# Altium footprint library WakamelibGOOD.PCBLIB: 54 footprints (part 3 of 4)
Each footprint in its own frame and in the unit in brackets; x right, y up, seen from the top. Pads: shape width x height; smd on the part's side, far side on the other; paste and mask are expansions set on the pad; w line width, h text height; cw(c..) or ccw(c..) is an arc to the next point about the centre after c.
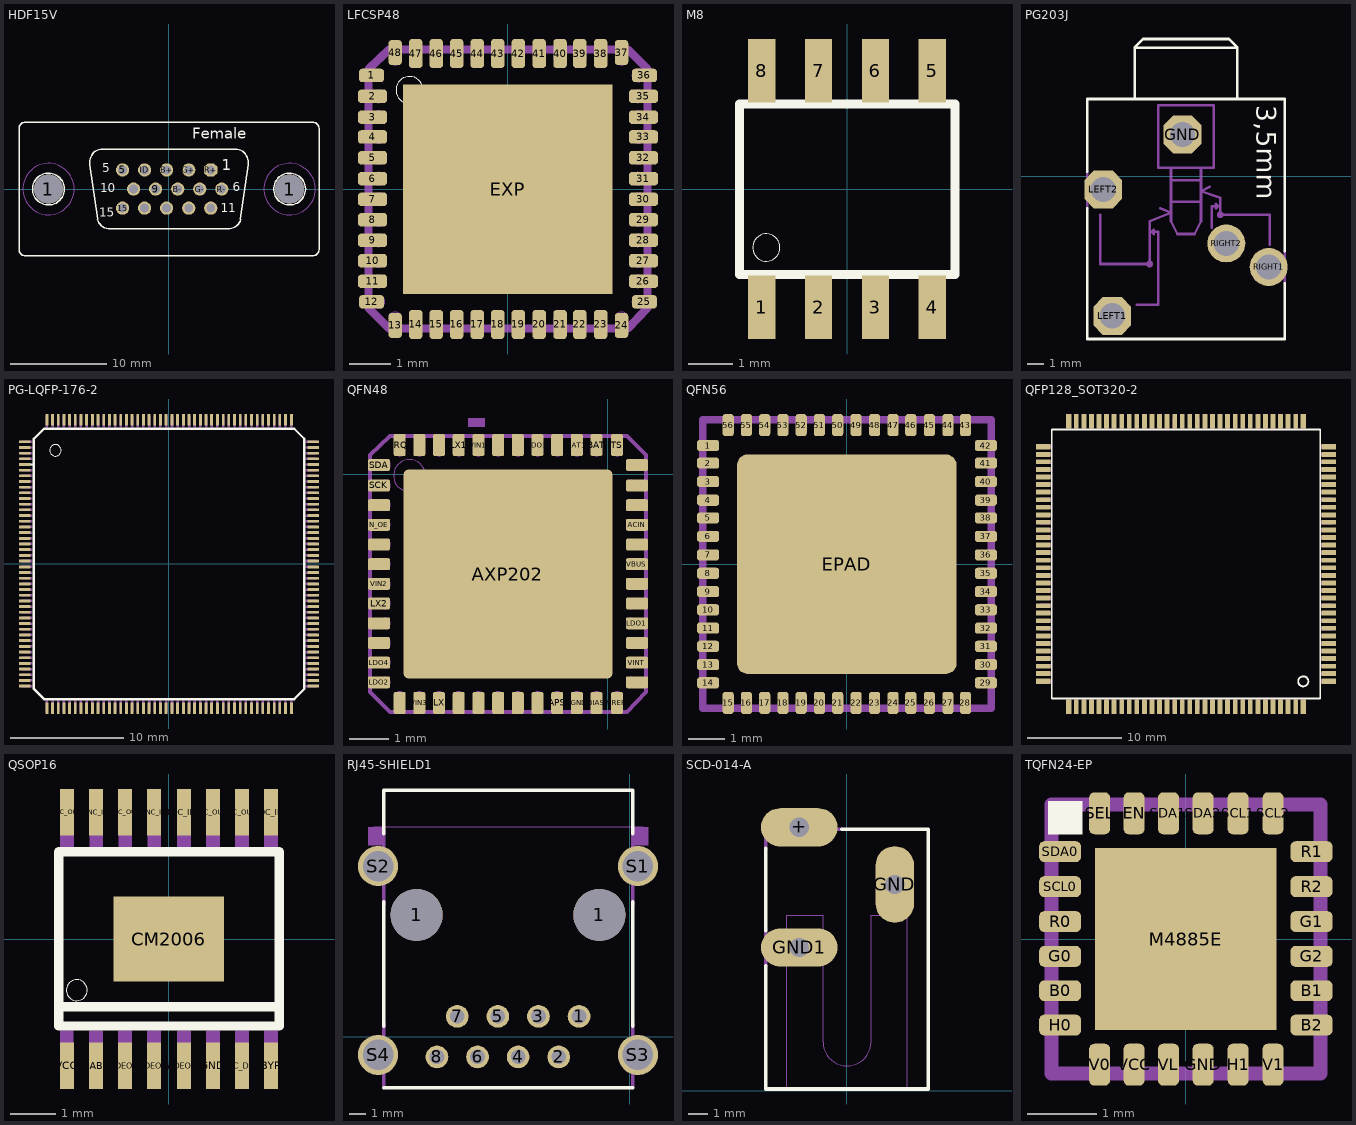
[diagram p2: the footprints below, top view; thin cyan lines are the x and y axes]

## HDF15V [mil]
pads (17):
  round 119 hole 119: 1(-492.13,0) 1(493,0)
  round 54 hole 36: 5(-189.57,78) 9(-54.57,0) 15(-189.57,-77.95) B+(-9.57,78) B-(36,0) G+(81,78) G-(126,0) GND(-144.57,0) HSYNC(-9.57,-77.95) ID(-99.57,78) ID0(171,-77.95) ID1(81,-77.95) R-(216,0) VSYNC(-99.57,-77.95)
  oct 54x54 hole 36: R+(171,78)
Top Overlay:
  circle w6: c493,0 r65
  circle w6: c-492.13,0 r65
  lines w6: -587.44,-272.56 cw(c-587.44,-247.56) -612.44,-247.56 -612.44,248 cw(c-587.44,248) -587.44,273 588,273 cw(c588,248) 613,248 613,-247.56 cw(c588,-247.56) 588,-272.56 -587.13,-272.56 ; -292,-123.21 ccw(c-240.71,-109.87) -240.71,-162.87 241,-162.87 ccw(c241.35,-109.42) 293,-123.21 ; -291.69,-123.86 -322.72,100 cw(c-270.87,110.2) -270.71,163 271,163 cw(c271.22,110.06) 323,99 292,-122.87
  text "1" at 216,61 h77.5
  text "5" at -272.24,57 h62
  text "6" at 260,-22.24 h62
  text "10" at -280.12,-26.18 h62
  text "15" at -284.25,-124.61 h62
  text "11" at 212,-106.5 h62
  text "Female" at 95,190 h77.5
Mechanical 2:
  text ">SVGA" at -450,300 h108.5
Mechanical 4:
Mechanical 9:
  circle w0: c493,0 r105
  circle w0: c-492.13,0 r105
Mechanical 10:
  circle w0: c493,0 r105
  circle w0: c-492.13,0 r105
Mechanical 16:
  text "HDF15 CONEC" at -473.74,211 h77.5

## LFCSP48 [mil]
pads (49):
  rrect50% 24x13 smd: 1(-130.91,109) 12(-130.91,-108.27) 25(131,-108.27) 36(131,109)
  rrect50% 28x13 smd: 2(-129.92,89) 3(-129.92,69) 4(-129.92,50) 5(-129.92,30) 6(-129.92,10) 7(-129.92,-9.84) 8(-129.92,-29.53) 9(-129.92,-49.21) 10(-129.92,-68.9) 11(-129.92,-88.58) 26(130,-88.58) 27(130,-68.9) 28(130,-49.21) 29(130,-29.53) 30(130,-9.84) 31(130,10) 32(130,30) 33(130,50) 34(130,69) 35(130,89)
  rrect50% 13x24 smd: 13(-108.27,-130.91) 24(109,-130.91) 37(109,131) 48(-108.27,131)
  rrect50% 13x28 smd: 14(-88.58,-129.92) 15(-68.9,-129.92) 16(-49.21,-129.92) 17(-29.53,-129.92) 18(-9.84,-129.92) 19(10,-129.92) 20(30,-129.92) 21(50,-129.92) 22(69,-129.92) 23(89,-129.92) 38(89,130) 39(69,130) 40(50,130) 41(30,130) 42(10,130) 43(-9.84,130) 44(-29.53,130) 45(-49.21,130) 46(-68.9,130) 47(-88.58,130)
  rect 201x201 smd: EXP(0,0)
Top Overlay:
  circle w0: c-94.49,95 r13
Top Paste:
  rectangle: -98.43,-98.43 99,99
  lines w12: -137.8,-88.58 -122.05,-88.58 ; -137.8,-68.9 -122.05,-68.9 ; -137.8,-49.21 -122.05,-49.21 ; -137.8,-29.53 -122.05,-29.53 ; -137.8,-9.84 -122.05,-9.84 ; -137.8,10 -122.05,10 ; -137.8,30 -122.05,30 ; -137.8,50 -122.05,50 ; -137.8,69 -122.05,69 ; -137.8,89 -122.05,89 ; -136.81,-108.27 -125,-108.27 ; -136.81,109 -125,109 ; -108.27,-136.81 -108.27,-125 ; -108.27,125 -108.27,137 ; -88.58,-137.8 -88.58,-122.05 ; -88.58,123 -88.58,138 ; -68.9,-137.8 -68.9,-122.05 ; -68.9,123 -68.9,138 ; -49.21,-137.8 -49.21,-122.05 ; -49.21,123 -49.21,138 ; -29.53,-137.8 -29.53,-122.05 ; -29.53,123 -29.53,138 ; -9.84,-137.8 -9.84,-122.05 ; -9.84,123 -9.84,138 ; 10,-137.8 10,-122.05 ; 10,123 10,138 ; 30,-137.8 30,-122.05 ; 30,123 30,138 ; 50,-137.8 50,-122.05 ; 50,123 50,138 ; 69,-137.8 69,-122.05 ; 69,123 69,138 ; 89,-137.8 89,-122.05 ; 89,123 89,138 ; 109,-136.81 109,-125 ; 109,125 109,137 ; 123,-88.58 138,-88.58 ; 123,-68.9 138,-68.9 ; 123,-49.21 138,-49.21 ; 123,-29.53 138,-29.53 ; 123,-9.84 138,-9.84 ; 123,10 138,10 ; 123,30 138,30 ; 123,50 138,50 ; 123,69 138,69 ; 123,89 138,89 ; 125,-108.27 137,-108.27 ; 125,109 137,109
Top Solder:
  rectangle: -102.36,-102.36 103,103
  lines w16: -137.8,-88.58 -122.05,-88.58 ; -137.8,-68.9 -122.05,-68.9 ; -137.8,-49.21 -122.05,-49.21 ; -137.8,-29.53 -122.05,-29.53 ; -137.8,-9.84 -122.05,-9.84 ; -137.8,10 -122.05,10 ; -137.8,30 -122.05,30 ; -137.8,50 -122.05,50 ; -137.8,69 -122.05,69 ; -137.8,89 -122.05,89 ; -136.81,-108.27 -125,-108.27 ; -136.81,109 -125,109 ; -108.27,-136.81 -108.27,-125 ; -108.27,125 -108.27,137 ; -88.58,-137.8 -88.58,-122.05 ; -88.58,123 -88.58,138 ; -68.9,-137.8 -68.9,-122.05 ; -68.9,123 -68.9,138 ; -49.21,-137.8 -49.21,-122.05 ; -49.21,123 -49.21,138 ; -29.53,-137.8 -29.53,-122.05 ; -29.53,123 -29.53,138 ; -9.84,-137.8 -9.84,-122.05 ; -9.84,123 -9.84,138 ; 10,-137.8 10,-122.05 ; 10,123 10,138 ; 30,-137.8 30,-122.05 ; 30,123 30,138 ; 50,-137.8 50,-122.05 ; 50,123 50,138 ; 69,-137.8 69,-122.05 ; 69,123 69,138 ; 89,-137.8 89,-122.05 ; 89,123 89,138 ; 109,-136.81 109,-125 ; 109,125 109,137 ; 123,-88.58 138,-88.58 ; 123,-68.9 138,-68.9 ; 123,-49.21 138,-49.21 ; 123,-29.53 138,-29.53 ; 123,-9.84 138,-9.84 ; 123,10 138,10 ; 123,30 138,30 ; 123,50 138,50 ; 123,69 138,69 ; 123,89 138,89 ; 125,-108.27 137,-108.27 ; 125,109 137,109
Mechanical 2:
  text "ADV7125" at 93,13 h37.2
Mechanical 16:
  circle w0: c-108.27,125 r6
  circle w0: c-88.58,125 r6
  circle w0: c-68.9,125 r6
  circle w0: c-49.21,125 r6
  circle w0: c-29.53,125 r6
  circle w0: c-9.84,125 r6
  circle w0: c10,125 r6
  circle w0: c30,125 r6
  circle w0: c50,125 r6
  circle w0: c69,125 r6
  circle w0: c89,125 r6
  circle w0: c109,125 r6
  circle w0: c125,109 r6
  circle w0: c125,89 r6
  circle w0: c125,69 r6
  circle w0: c125,50 r6
  circle w0: c125,30 r6
  circle w0: c125,10 r6
  circle w0: c125,-9.84 r6
  circle w0: c125,-29.53 r6
  circle w0: c125,-49.21 r6
  circle w0: c125,-68.9 r6
  circle w0: c125,-88.58 r6
  circle w0: c125,-108.27 r6
  circle w0: c109,-124.02 r6
  circle w0: c89,-124.02 r6
  circle w0: c69,-124.02 r6
  circle w0: c50,-124.02 r6
  circle w0: c30,-124.02 r6
  circle w0: c10,-124.02 r6
  circle w0: c-9.84,-124.02 r6
  circle w0: c-29.53,-124.02 r6
  circle w0: c-49.21,-124.02 r6
  circle w0: c-68.9,-124.02 r6
  circle w0: c-88.58,-124.02 r6
  circle w0: c-108.27,-124.02 r6
  circle w0: c-124.02,-108.27 r6
  circle w0: c-124.02,-88.58 r6
  circle w0: c-124.02,-68.9 r6
  circle w0: c-124.02,-49.21 r6
  circle w0: c-124.02,-29.53 r6
  circle w0: c-124.02,-9.84 r6
  circle w0: c-124.02,10 r6
  circle w0: c-124.02,30 r6
  circle w0: c-124.02,50 r6
  circle w0: c-124.02,69 r6
  circle w0: c-124.02,89 r6
  circle w0: c-124.02,109 r5
  region: -114.27,137.4 -114.27,124.6 -102.27,124.6 -102.27,137.4
  region: -94.58,137.4 -94.58,124.6 -82.58,124.6 -82.58,137.4
  region: -74.9,137.4 -74.9,124.6 -62.9,124.6 -62.9,137.4
  region: -55.21,137.4 -55.21,124.6 -43.21,124.6 -43.21,137.4
  region: -35.53,137.4 -35.53,124.6 -23.53,124.6 -23.53,137.4
  region: -15.84,137.4 -15.84,124.6 -3.84,124.6 -3.84,137.4
  region: 4.5,137.5 4.5,124.5 16.5,124.5 16.5,137.5
  region: 24,137 24,125 36,125 36,137
  region: 43.5,137.5 43.5,124.5 55.5,124.5 55.5,137.5
  region: 63.5,137.5 63.5,124.5 75.5,124.5 75.5,137.5
  region: 83,137 83,125 95,125 95,137
  region: 102.5,137.5 102.5,124.5 114.5,124.5 114.5,137.5
  region: 137,115 125,115 125,103 137,103
  region: 137,95 125,95 125,83 137,83
  region: 137,75 125,75 125,63 137,63
  region: 137,56 125,56 125,44 137,44
  region: 137,36 125,36 125,24 137,24
  region: 137,16 125,16 125,4 137,4
  region: 137,-3.94 125,-3.94 125,-15.75 137,-15.75
  region: 137,-23.62 125,-23.62 125,-35.43 137,-35.43
  region: 137,-43.31 125,-43.31 125,-55.12 137,-55.12
  region: 137,-62.99 125,-62.99 125,-74.8 137,-74.8
  region: 137,-82.68 125,-82.68 125,-94.49 137,-94.49
  region: 137,-102.36 125,-102.36 125,-114.17 137,-114.17
  region: 114.41,-136.91 114.41,-123.91 102.59,-123.91 102.59,-136.91
  region: 94.91,-136.41 94.91,-124.41 83.09,-124.41 83.09,-136.41
  region: 75.41,-136.91 75.41,-123.91 63.59,-123.91 63.59,-136.91
  region: 55.41,-136.91 55.41,-123.91 43.59,-123.91 43.59,-136.91
  region: 35.91,-136.41 35.91,-124.41 24.09,-124.41 24.09,-136.41
  region: 16.41,-136.91 16.41,-123.91 4.59,-123.91 4.59,-136.91
  region: -3.94,-136.81 -3.94,-124.02 -15.75,-124.02 -15.75,-136.81
  region: -23.62,-136.81 -23.62,-124.02 -35.43,-124.02 -35.43,-136.81
  region: -43.31,-136.81 -43.31,-124.02 -55.12,-124.02 -55.12,-136.81
  region: -62.99,-136.81 -62.99,-124.02 -74.8,-124.02 -74.8,-136.81
  region: -82.68,-136.81 -82.68,-124.02 -94.49,-124.02 -94.49,-136.81
  region: -102.36,-136.81 -102.36,-124.02 -114.17,-124.02 -114.17,-136.81
  rectangle: -136.81,-114.17 -124.02,-102.36
  rectangle: -136.81,-94.49 -124.02,-82.68
  rectangle: -136.81,-74.8 -124.02,-62.99
  rectangle: -136.81,-55.12 -124.02,-43.31
  rectangle: -136.81,-35.43 -124.02,-23.62
  rectangle: -136.81,-15.75 -124.02,-3.94
  rectangle: -136.81,4 -124.02,16
  rectangle: -136.81,24 -124.02,36
  rectangle: -136.81,44 -124.02,56
  rectangle: -136.81,63 -124.02,75
  rectangle: -136.81,83 -124.02,95
  rectangle: -136.81,103 -124.02,115
  lines w8: -133.86,-114.17 -133.86,115 -114.17,134 115,134 134,115 134,-114.17 115,-133.86 -114.17,-133.86 -133.86,-114.17

## M8 [mil]
pads (8):
  rect 24x56 smd: 1(-75,-103.54) 2(-25,-103.54) 3(25,-103.54) 4(75,-103.54) 5(75,104) 6(25,104) 7(-25,104) 8(-75,104)
Top Overlay:
  circle w0: c-70.87,-51.18 r12
  lines w8: -94.49,-75 -94.49,75 95,75 95,-75 -94.49,-75
Mechanical 13:
  text "Microchip" at -75,-25 h18.6
  text "SO8 Medium" at -75,-50 h18.6
Mechanical 16:
  rectangle: -84.65,79 -65.35,123
  rectangle: -34.65,79 -15.35,123
  rectangle: 16,79 35,123
  rectangle: 66,79 85,123
  rectangle: 66,-122.05 85,-78.74
  rectangle: 16,-122.05 35,-78.74
  rectangle: -34.65,-122.05 -15.35,-78.74
  rectangle: -84.65,-122.05 -65.35,-78.74

## PG203J [mil]
pads (5):
  oct 88.5x88.5 hole 59: GND(-408,97) LEFT1(-572,-326) LEFT2(-593,-31)
  round 88.5 hole 59: RIGHT1(-207,-212) RIGHT2(-306,-157)
Top Overlay:
  lines w6: -630,-75 -630,-380 -170,-380 -170,-250 ; -630,10 -630,180 -520,180 ; -170,-175 -170,180 -280,180 ; -520,180 -280,180 ; -520,180 -520,300 ; -520,300 -280,300 ; -520,300 -500,320 -300,320 -280,300 ; -280,180 -280,300
  text "3,5mm" at -250,165 h77.5
Mechanical 16:
  circle w6: c-320,-90 r5
  circle w6: c-485,-205 r5
  lines w6: -630,-75 -630,10 ; -600,-90 -600,-205 -485,-205 -485,-130 ; -515,-300 -465,-300 -465,-130 -480,-130 ; -460,-75 -435,-85 ; -345,-25 -365,-35 ; -340,-120 -340,-70 -325,-70 ; -205,-160 -205,-90 -320,-90 -320,-70 ; -170,-250 -170,-175 ; -485,-130 -480,-130 ; -485,-130 -485,-105 -435,-85 ; -480,-130 -475,-135 -475,-125 -480,-130 ; -435,-85 -435,-60 ; -435,-85 -435,-105 -420,-135 -380,-135 -365,-105 -365,-60 ; -435,-60 -435,-10 ; -435,-60 -365,-60 ; -435,-10 -435,20 ; -435,-10 -365,-10 ; -435,20 -465,20 -465,165 -335,165 -335,20 -365,20 ; -435,20 -365,20 ; -365,-60 -365,-35 ; -365,-35 -365,-10 ; -365,-35 -320,-50 -320,-70 ; -365,-10 -365,20 ; -325,-70 -330,-75 -330,-65 -325,-70 ; -325,-70 -320,-70
  text "5" at -585,-95 h77.5
  text "4" at -510,-315 h77.5
  text "3" at -350,-210 h77.5
  text "2" at -250,-265 h77.5
  text "1" at -450,150 h77.5

## PG-LQFP-176-2 [mil]
pads (176):
  rect 10x40 smd: AGND(247,-500) AVCC(286,-500) DDR3_A0(-49.21,-500) DDR3_A1(-285.43,-500) DDR3_A2(-9.84,-500) DDR3_A3(-29.53,-500) DDR3_A4(-305.12,-500) DDR3_A5(10,-500) DDR3_A6(-246.06,-500) DDR3_A7(89,-500) DDR3_A8(-226.38,-500) DDR3_A9(50,-500) DDR3_A10(-364.17,-500) DDR3_A11(-206.69,-500) DDR3_A12(-324.8,-500) DDR3_A13(30,-500) DDR3_A14(-187.01,-500) DDR3_BA0(-68.9,-500) DDR3_BA1(-344.49,-500) DDR3_BA2(-108.27,-500) DDR3_CAS(-147.64,-500) DDR3_CK(-423.23,-500) DDR3_CK_N(-403.54,-500) DDR3_CKE(-383.86,-500) DDR3_ODT(109,-500) DDR3_RAS(-167.32,-500) DDR3_RST(69,-500) DDR3_WE(-127.95,-500) HPBP(168,-500) HPCOM(207,-500) HPOUTL(148,-500) HPOUTR(227,-500) LCD_D2/PD2(128,500) LCD_D3/PD3(148,500) LCD_D4/PD4(168,500) LCD_D5/PD5(188,500) LCD_D6/PD6(207,500) LCD_D7/PD7(227,500) LCD_D10/PD10(266,500) LCD_D11/PD11(286,500) LCD_D12/PD12(306,500) LCD_D13/PD13(325,500) LCD_D14/PD14(345,500) LCD_D15/PD15(365,500) LCD_D18/PD18(384,500) LCD_D19/PD19(404,500) LCD_D20/PD20(424,500) LRADC(384,-500) MICIN1(345,-500) NDQ0/SDC2_D0/PC8(-383.86,500) NDQ1/SDC2_D1/PC9(-344.49,500) NDQ2/SDC2_D2/PC10(-324.8,500) NDQ3/SDC2_D3/PC11(-305.12,500) NDQ4/SDC2_D4/PC12(-265.75,500) NDQ5/SDC2_D5/PC13(-246.06,500) NDQ6/SDC2_D6/PC14(-226.38,500) NDQ7/SDC2_D7/PC15(-206.69,500) NDQS/PC19(-147.64,500) NMI_N(-68.9,500) NRB0/SDC2_CMD/PC6(-423.23,500) NRB1/SDC2_CLK/PC7(-403.54,500) PB3/EINT17(89,500) PB17(-127.95,500) PB18(-108.27,500) PG0/EINT0(-9.84,500) PG1/EINT1(10,500) PG2/EINT2(30,500) PG3/UART1_TX/EINT3(50,500) PG4/UART1_RX/EINT14(69,500) RESET_N(-88.58,500) TPX2(404,-500) TPY2(424,-500) UBOOT(-49.21,500) V33_HP(188,-500) VCC3(247,500) VCC4(-167.32,500) VCC4_DRAM(-265.75,-500) VCC5_DRAM(-88.58,-500) VDD2_INT(128,-500) VDD5_CPU(-29.53,500) VDD5_INT(109,500) VDD6_CPU(-187.01,500) VDD7_CPU(-285.43,500) VDD8_CPU(-364.17,500) VMIC(365,-500) VRA1(325,-500) VRA2(306,-500) VRP(266,-500)
  rect 40x10 smd: CSI_D0/SDC_D0/PE4(500,148) CSI_D2/SDC2_D2/PE6(500,188) CSI_D3/SDC2_D3/PE7(500,207) CSI_D4/SDC2_CMD/PE8(500,227) CSI_D5/SDC2_CLK/PE9(500,247) CSI_D6/UART1_TX/PE10(500,266) CSI_D7/UART1_RX/PE11(500,286) CSI_DI/SDC2_DI/PE5(500,168) CSI_HSYNC/SP2_MOSI/P(500,109) CSI_MCLK/SPI2_CLK/EI(500,89) CSI_PCLK/SPI2_CS0/EI(500,69) CSI_VSYNC/SPI2_MISO/(500,128) DDR3_D0(-500,10) DDR3_D1(-500,-344.49) DDR3_D2(-500,30) DDR3_D3(-500,-364.17) DDR3_D4(-500,69) DDR3_D5(-500,-423.23) DDR3_D6(-500,50) DDR3_D7(-500,-383.86) DDR3_D9(-500,-49.21) DDR3_D10(-500,-324.8) DDR3_D11(-500,-29.53) DDR3_D12(-500,-265.75) DDR3_D13(-500,-68.9) DDR3_D14(-500,-305.12) DDR3_D15(-500,-88.58) DDR3_DM0(-500,-127.95) DDR3_DM1(-500,-108.27) DDR3_DQS0(-500,-167.32) DDR3_DQS0_N(-500,-187.01) DDR3_DQS1(-500,-206.69) DDR3_DQS1_N(-500,-226.38) DDR3_R8(-500,-285.43) DZQ(-500,109) LCD_CLK/PD24(500,365) LCD_D21/PD21(500,424) LCD_D22/PD22(500,404) LCD_D23/PD23(500,384) LCD_DE/PD25(500,345) LCD_HSYNC/PD26(500,325) LCD_VSYNC/PD27(500,306) NALE/SPIO_MISO/PCI(-500,306) NC(500,-226.38) NCE0(-500,404) NCE1/SPIO0/PC3(-500,384) NCLE/SPIO_CLK/PC2(-500,325) NRE(-500,424) NWE/SPIO_MOSI/PC0(-500,286) PB2/EINT16(500,-147.64) PB4_EINT18(500,-127.95) PB10/EINT24(-500,247) PB15(500,-108.27) PB16(500,-88.58) PG9/SPI1_CS0/UART3_T(-500,207) PG10/SPI1_CLK/UART3_(-500,188) PG11/SPI1_MOSI/EINT1(-500,168) PG12/SPI1_MISO/UART312(-500,148) SDC0/PF1(500,-49.21) SDC0_CLK/PF2(500,-9.84) SDC0_CMD/PF3(500,10) SDC0_D3/PF4(500,30) SDC0_DI/PF0(500,-68.9) SDCO_D2/PF5(500,50) SVREF(-500,89) TPX1(500,-423.23) TPY1(500,-403.54) TWI0-SCK/PB0(500,-187.01) TWIO-SDA/PB1(500,-167.32) UDM0(500,-344.49) UDM1(500,-305.12) UDP0(500,-324.8) UDP1(500,-285.43) V33_USB(500,-265.75) VCC1(-500,345) VCC1_DRAM(-500,-9.84) VCC2(500,-206.69) VCC2_DRAM(-500,-147.64) VCC3_DRAM(-500,-403.54) VDD1_CPU(-500,365) VDD1_INT(-500,-246.06) VDD2_CPU/PB10/EINT24(-500,266) VDD3-INT(500,-246.06) VDD3_CPU(-500,227) VDD4_CPU(-500,128) VDD4_INT(500,-29.53) X24MIN(500,-364.17) X24OUT(500,-383.86)
Top Overlay:
  circle w0: c-393.7,394 r20
  rectangle: -511.81,341 -472.44,349
  lines w8: -468.44,-433.07 -433.07,-468.44 434,-468.44 469,-433.07 469,434 434,469 -433.07,469 -468.44,434 -468.44,-433.07
Mechanical 2:
  text "ALLWINNER  A13" at -311.81,-13.19 h77.5
Mechanical 4:
Mechanical 16:
  drawing of 175 lines, arcs and shapes, not listed

## QFN48 [mil]
pads (49):
  rrect30% 22x12 smd: ACIN(29,-50.79) ACIN1(29,-70.47) BACKUP(29,-109.84) CHGLED(29,9) DC3SET(29,-129.53) DCDC2(-228.94,-168.9) GPIO2(-228.94,-70.47) GPIO3(-228.94,-31.1) IPSOUT(29,-11.42) IPSOUT1(29,-31.1) LDO1(29,-149.21) LDO2(-228.94,-208.27) LDO4(-228.94,-188.58) LX2(-228.94,-129.53) N_OE(-228.94,-50.79) N_VBUSEN(-228.94,-90.16) PGND2(-228.94,-149.21) PWREN(29,-168.9) PWROK(29,-208.27) SCK(-228.94,-11.42) SDA(-228.94,9) VBUS(29,-90.16) VIN2(-228.94,-109.84) VINT(29,-188.58)
  rrect30% 12x22 smd: AGND(-31.1,-228.94) APS(-50.79,-228.94) BAT(-11.42,29) BAT1(-31.1,29) BATSENSE(-90.16,29) BIAS(-11.42,-228.94) CHSENSE(-109.84,29) DCDC3(-129.53,-228.94) EXTEN(-70.47,-228.94) GPIO0(-90.16,-228.94) GPIO1(-109.84,-228.94) IRQ(-208.27,29) LDO3(-70.47,29) LDO3IN(-50.79,29) LDO24IN(-208.27,-228.94) LX(-168.9,-228.94) LX1(-149.21,29) PGND1(-168.9,29) PGND3(-149.21,-228.94) PWRON(-188.58,29) TS(9,29) VIN1(-129.53,29) VIN3(-188.58,-228.94) VREF(9,-228.94)
  rrect5% 209x209 smd: AXP202(-100,-100)
Top Paste:
  drawing of 241 lines, arcs and shapes, not listed
Top Solder:
  drawing of 241 lines, arcs and shapes, not listed
Mechanical 16:
  circle w0: c-222.64,9 r5
  circle w0: c-222.64,-11.42 r5
  circle w0: c-222.64,-31.1 r5
  circle w0: c-222.64,-50.79 r5
  circle w0: c-222.64,-70.47 r5
  circle w0: c-222.64,-90.16 r5
  circle w0: c-222.64,-109.84 r5
  circle w0: c-222.64,-129.53 r5
  circle w0: c-222.64,-149.21 r5
  circle w0: c-222.64,-168.9 r5
  circle w0: c-222.64,-188.58 r5
  circle w0: c-222.64,-208.27 r5
  circle w0: c-208.27,-222.64 r5
  circle w0: c-188.58,-222.64 r5
  circle w0: c-168.9,-222.64 r5
  circle w0: c-149.21,-222.64 r5
  circle w0: c-129.53,-222.64 r5
  circle w0: c-109.84,-222.64 r5
  circle w0: c-90.16,-222.64 r5
  circle w0: c-70.47,-222.64 r5
  circle w0: c-50.79,-222.64 r5
  circle w0: c-31.1,-222.64 r5
  circle w0: c-11.42,-222.64 r5
  circle w0: c9,-222.64 r5
  circle w0: c23,-208.27 r5
  circle w0: c23,-188.58 r5
  circle w0: c23,-168.9 r5
  circle w0: c23,-149.21 r5
  circle w0: c23,-129.53 r5
  circle w0: c23,-109.84 r5
  circle w0: c23,-90.16 r5
  circle w0: c23,-70.47 r5
  circle w0: c23,-50.79 r5
  circle w0: c23,-31.1 r5
  circle w0: c23,-11.42 r5
  circle w0: c23,9 r5
  circle w0: c9,23 r5
  circle w0: c-11.42,23 r5
  circle w0: c-31.1,23 r5
  circle w0: c-50.79,23 r5
  circle w0: c-70.47,23 r5
  circle w0: c-90.16,23 r5
  circle w0: c-109.84,23 r5
  circle w0: c-129.53,23 r5
  circle w0: c-149.21,23 r5
  circle w0: c-168.9,23 r5
  circle w0: c-188.58,23 r5
  circle w0: c-208.27,23 r5
  circle w0: c-198.43,-1.57 r16
  region: -239.9,12.93 -239.9,3.87 -222.7,3.87 -222.7,12.93
  region: -239.76,-6.89 -239.76,-15.94 -222.83,-15.94 -222.83,-6.89
  region: -239.76,-26.57 -239.76,-35.63 -222.83,-35.63 -222.83,-26.57
  region: -239.76,-46.26 -239.76,-55.31 -222.83,-55.31 -222.83,-46.26
  region: -239.76,-65.94 -239.76,-75 -222.83,-75 -222.83,-65.94
  region: -239.76,-85.63 -239.76,-94.68 -222.83,-94.68 -222.83,-85.63
  region: -239.76,-105.32 -239.76,-114.37 -222.83,-114.37 -222.83,-105.32
  region: -239.76,-125 -239.76,-134.06 -222.83,-134.06 -222.83,-125
  region: -239.76,-144.69 -239.76,-153.74 -222.83,-153.74 -222.83,-144.69
  region: -239.76,-164.37 -239.76,-173.43 -222.83,-173.43 -222.83,-164.37
  region: -239.76,-184.06 -239.76,-193.11 -222.83,-193.11 -222.83,-184.06
  region: -239.76,-203.74 -239.76,-212.8 -222.83,-212.8 -222.83,-203.74
  rectangle: -212.8,-239.76 -203.74,-222.83
  rectangle: -193.11,-239.76 -184.06,-222.83
  rectangle: -173.43,-239.76 -164.37,-222.83
  rectangle: -153.74,-239.76 -144.69,-222.83
  rectangle: -134.06,-239.76 -125,-222.83
  rectangle: -114.37,-239.76 -105.31,-222.83
  rectangle: -94.69,-239.76 -85.63,-222.83
  rectangle: -75,-239.76 -65.94,-222.83
  rectangle: -55.31,-239.76 -46.26,-222.83
  rectangle: -35.63,-239.76 -26.57,-222.83
  rectangle: -15.94,-239.76 -6.89,-222.83
  rectangle: 4,-239.76 13,-222.83
  region: 39.96,-212.77 39.96,-203.77 23.04,-203.77 23.04,-212.77
  region: 39.96,-193.08 39.96,-184.08 23.04,-184.08 23.04,-193.08
  region: 39.96,-173.4 39.96,-164.4 23.04,-164.4 23.04,-173.4
  region: 39.96,-153.71 39.96,-144.71 23.04,-144.71 23.04,-153.71
  region: 39.96,-134.03 39.96,-125.03 23.04,-125.03 23.04,-134.03
  region: 39.96,-114.34 39.96,-105.34 23.04,-105.34 23.04,-114.34
  region: 39.96,-94.66 39.96,-85.66 23.04,-85.66 23.04,-94.66
  region: 39.96,-74.97 39.96,-65.97 23.04,-65.97 23.04,-74.97
  region: 39.96,-55.29 39.96,-46.29 23.04,-46.29 23.04,-55.29
  region: 39.96,-35.6 39.96,-26.6 23.04,-26.6 23.04,-35.6
  region: 39.96,-15.92 39.96,-6.92 23.04,-6.92 23.04,-15.92
  region: 40.1,3.9 40.1,12.9 22.9,12.9 22.9,3.9
  region: 13,40 4,40 4,23 13,23
  region: -6.89,40 -15.94,40 -15.94,23 -6.89,23
  region: -26.57,40 -35.63,40 -35.63,23 -26.57,23
  region: -46.26,40 -55.31,40 -55.31,23 -46.26,23
  region: -65.94,40 -75,40 -75,23 -65.94,23
  region: -85.63,40 -94.69,40 -94.69,23 -85.63,23
  region: -105.31,40 -114.37,40 -114.37,23 -105.31,23
  region: -125,40 -134.06,40 -134.06,23 -125,23
  region: -139.8,56.03 -139.8,46.97 -122.8,46.97 -122.8,56.03
  region: -164.37,40 -173.43,40 -173.43,23 -164.37,23
  region: -184.06,40 -193.11,40 -193.11,23 -184.06,23
  region: -203.74,40 -212.8,40 -212.8,23 -203.74,23
  lines w4: -237.8,-218.11 -218.11,-237.8 19,-237.8 38,-218.11 38,19 19,38 -218.11,38 -237.8,19 -237.8,-218.11

## QFN56 [mil]
pads (57):
  rrect50% 24x12 smd: 1(-149.61,128) 2(-149.61,109) 3(-149.61,89) 4(-149.61,69) 5(-149.61,50) 6(-149.61,30) 7(-149.61,10) 8(-149.61,-9.84) 9(-149.61,-29.53) 10(-149.61,-49.21) 11(-149.61,-68.9) 12(-149.61,-88.58) 13(-149.61,-108.27) 14(-149.61,-127.95) 29(150,-127.95) 30(150,-108.27) 31(150,-88.58) 32(150,-68.9) 33(150,-49.21) 34(150,-29.53) 35(150,-9.84) 36(150,10) 37(150,30) 38(150,50) 39(150,69) 40(150,89) 41(150,109) 42(150,128)
  rrect50% 12x24 smd: 15(-127.95,-149.61) 16(-108.27,-149.61) 17(-88.58,-149.61) 18(-68.9,-149.61) 19(-49.21,-149.61) 20(-29.53,-149.61) 21(-9.84,-149.61) 22(10,-149.61) 23(30,-149.61) 24(50,-149.61) 25(69,-149.61) 26(89,-149.61) 27(109,-149.61) 28(128,-149.61) 43(128,150) 44(109,150) 45(89,150) 46(69,150) 47(50,150) 48(30,150) 49(10,150) 50(-9.84,150) 51(-29.53,150) 52(-49.21,150) 53(-68.9,150) 54(-88.58,150) 55(-108.27,150) 56(-127.95,150)
  rrect10% 237x237 smd: EPAD(0,0)
Top Solder:
  rectangle: -116.14,-116.14 117,117
  region: -133.95,161.81 -133.95,138.19 -121.95,138.19 -121.95,161.81
  region: -114.27,161.81 -114.27,138.19 -102.27,138.19 -102.27,161.81
  region: -94.58,161.81 -94.58,138.19 -82.58,138.19 -82.58,161.81
  region: -74.9,161.81 -74.9,138.19 -62.9,138.19 -62.9,161.81
  region: -55.21,161.81 -55.21,138.19 -43.21,138.19 -43.21,161.81
  region: -35.53,161.81 -35.53,138.19 -23.53,138.19 -23.53,161.81
  region: -15.83,161.83 -15.83,138.17 -3.83,138.17 -3.83,161.83
  region: 4.02,161.98 4.02,138.02 16.02,138.02 16.02,161.98
  region: 24,162 24,138 36,138 36,162
  region: 44,162 44,138 56,138 56,162
  region: 63.5,161.5 63.5,138.5 75.5,138.5 75.5,161.5
  region: 83,162 83,138 95,138 95,162
  region: 103,162 103,138 115,138 115,162
  region: 122.5,161.5 122.5,138.5 134.5,138.5 134.5,161.5
  region: 162,134 138,134 138,123 162,123
  region: 162,115 138,115 138,103 162,103
  region: 162,95 138,95 138,83 162,83
  region: 162,75 138,75 138,63 162,63
  region: 162,56 138,56 138,44 162,44
  region: 162,36 138,36 138,24 162,24
  region: 162,16 138,16 138,4 162,4
  region: 162,-3.94 138,-3.94 138,-15.75 162,-15.75
  region: 162,-23.62 138,-23.62 138,-35.43 162,-35.43
  region: 162,-43.31 138,-43.31 138,-55.12 162,-55.12
  region: 162,-62.99 138,-62.99 138,-74.8 162,-74.8
  region: 162,-82.68 138,-82.68 138,-94.49 162,-94.49
  region: 162,-102.36 138,-102.36 138,-114.17 162,-114.17
  region: 162,-122.05 138,-122.05 138,-133.86 162,-133.86
  region: 134.41,-161.11 134.41,-138.11 122.59,-138.11 122.59,-161.11
  region: 114.91,-161.61 114.91,-137.61 103.09,-137.61 103.09,-161.61
  region: 94.91,-161.61 94.91,-137.61 83.09,-137.61 83.09,-161.61
  region: 75.41,-161.11 75.41,-138.11 63.59,-138.11 63.59,-161.11
  region: 55.91,-161.61 55.91,-137.61 44.09,-137.61 44.09,-161.61
  region: 35.91,-161.61 35.91,-137.61 24.09,-137.61 24.09,-161.61
  region: 15.92,-161.59 15.92,-137.62 4.11,-137.62 4.11,-161.59
  region: -3.92,-161.43 -3.92,-137.78 -15.73,-137.78 -15.73,-161.43
  region: -23.62,-161.42 -23.62,-137.8 -35.43,-137.8 -35.43,-161.42
  region: -43.31,-161.42 -43.31,-137.8 -55.12,-137.8 -55.12,-161.42
  region: -62.99,-161.42 -62.99,-137.8 -74.8,-137.8 -74.8,-161.42
  region: -82.68,-161.42 -82.68,-137.8 -94.49,-137.8 -94.49,-161.42
  region: -102.36,-161.42 -102.36,-137.8 -114.17,-137.8 -114.17,-161.42
  region: -122.05,-161.42 -122.05,-137.8 -133.86,-137.8 -133.86,-161.42
  rectangle: -161.42,-133.86 -137.8,-122.05
  rectangle: -161.42,-114.17 -137.8,-102.36
  rectangle: -161.42,-94.49 -137.8,-82.68
  rectangle: -161.42,-74.8 -137.8,-62.99
  rectangle: -161.42,-55.12 -137.8,-43.31
  rectangle: -161.42,-35.43 -137.8,-23.62
  rectangle: -161.42,-15.75 -137.8,-3.94
  rectangle: -161.42,4 -137.8,16
  rectangle: -161.42,24 -137.8,36
  rectangle: -161.42,44 -137.8,56
  rectangle: -161.42,63 -137.8,75
  rectangle: -161.42,83 -137.8,95
  rectangle: -161.42,103 -137.8,115
  rectangle: -161.42,123 -137.8,134
Mechanical 2:
  text "LAN9500" at -77.17,-7.48 h49.6
Mechanical 16:
  lines w8: -155.51,-155.51 -155.51,156 156,156 156,-155.51 -155.51,-155.51

## QFP128_SOT320-2 [mil]
pads (128):
  rect 60x20 smd: AGND(-1455.51,3144) AGND15(-2644.49,3113) AGND16(-2644.49,3176) AVDD3(-1455.51,3113) AVDDK14(-2644.49,3207) AVDDK16(-2644.49,3144) DM(-1455.51,3207) EECK(-1455.51,2357) EECS(-1455.51,2388) EEDI(-1455.51,2420) EEDO(-1455.51,2514) EXTWAKEUP_N(-1455.51,2577) FORCEFS_N(-1455.51,2703) GND(-1455.51,2451) GND1(-1455.51,2766) GND2(-1455.51,2798) GND3(-1455.51,3018) GND21(-2644.49,2924) GND23(-2644.49,2735) GND24(-2644.49,2546) GNDAH(-1455.51,2955) GPIO0(-1455.51,2325) GPIO1(-1455.51,2294) GTX_CLK(-2644.49,2420) INT_REGULATOR_EN(-1455.51,2861) NC(-1455.51,2672) NC17(-2644.49,3081) NC18(-2644.49,3050) NC19(-2644.49,3018) NC20(-2644.49,2987) NC21(-2644.49,2955) NC22(-2644.49,2388) NC23(-2644.49,2357) NC24(-2644.49,2325) NC25(-2644.49,2294) RESET_N(-1455.51,2609) RREF(-1455.51,3176) TESTSPEEDUP(-1455.51,2640) TX_EN(-2644.49,2483) TX_ER(-2644.49,2514) TXC(-2644.49,2451) TXD0(-2644.49,2609) TXD1(-2644.49,2640) TXD2(-2644.49,2672) TXD3(-2644.49,2703) TXD4(-2644.49,2798) TXD5(-2644.49,2829) TXD6(-2644.49,2861) TXD7(-2644.49,2892) V25(-1455.51,2892) VBUS(-1455.51,2546) VDD2.7(-2644.49,2766) VDD2.8(-2644.49,2577) VDD3(-1455.51,2483) VDD3.1(-1455.51,2829) VDDAH(-1455.51,2924) VDDK(-1455.51,2735) VDDK1(-1455.51,2987) XIN12M(-1455.51,3050) XOUT12M(-1455.51,3081)
  rect 24x60 smd: AGND1(-1561.81,3345) AVDDK9(-2538.19,3345) VDD3.4(-2538.19,2156) VDD3.5(-1561.81,2156)
  rect 20x60 smd: AGND4(-1719.29,3345) AGND5(-2097.24,3345) AGND6(-2223.23,3345) AGND7(-2254.72,3345) AGND9(-2412.2,3345) AGND10(-2506.69,3345) AVDD3.1(-1687.8,3345) AVDD3.2(-1750.79,3345) AVDDK(-2065.75,3345) AVDDK2(-2191.73,3345) AVDDK4(-2317.72,3345) CLK60EXT(-1939.76,3345) CLKSEL(-1971.26,3345) COL(-1939.76,2156) CRS(-1971.26,2156) DMRS(-1624.8,3345) DPRS(-1656.3,3345) GND4(-1782.28,3345) GND12(-2506.69,2156) GND13(-2443.7,2156) GND15(-1845.28,2156) GND16(-1687.8,2156) GND17(-1593.31,2156) HS_TEST_MODE(-1845.28,3345) LED(-1656.3,2156) MDC(-1782.28,2156) MDINT(-1908.27,2156) MDIO(-1813.78,2156) NC1(-2002.76,3345) NC2(-2034.25,3345) NC3(-2128.74,3345) NC4(-2160.24,3345) NC7(-2286.22,3345) NC8(-2349.21,3345) NC9(-2380.71,3345) NC10(-2443.7,3345) NC11(-2475.2,3345) PHYRST_N(-1750.79,2156) RGMII_EN(-2349.21,2156) RPU(-1593.31,3345) RX_CLK(-2317.72,2156) RX_DV(-2286.22,2156) RX_ER(-2254.72,2156) RXD0(-2223.23,2156) RXD1(-2191.73,2156) RXD2(-2160.24,2156) RXD3(-2128.74,2156) RXD4(-2097.24,2156) RXD5(-2065.75,2156) RXD6(-2034.25,2156) RXD7(-2002.76,2156) SCAN_ENABLE(-1908.27,3345) SCAN_TEST(-1876.77,3345) TX_CLK(-2380.71,2156) USB_SPEED_LED(-1624.8,2156) VDD2.3(-1719.29,2156) VDD3.3(-1813.78,3345) VDDK11(-2475.2,2156) VDDK14(-1876.77,2156) XIN125M(-2412.2,2156)
  rect 60x24 smd: DB(-2644.49,3239) DP(-1455.51,3239) GPIO2(-1455.51,2262) NC26(-2644.49,2262)
Top Overlay:
  circle w8: c-1561.81,2262 r21
  lines w8: -2609.06,2191 -1490.94,2191 -1490.94,3310 -2609.06,3310 -2609.06,2191
Mechanical 2:
  text "AX88178" at -1900,2550 h77.5
Mechanical 4:
  text "USB TO ETHERNET" at -2300,2900 h77.5
Mechanical 16:
  region: -1553.81,2142.38 -1553.81,2189.62 -1569.81,2189.62 -1569.81,2142.38
  region: -1585.31,2142.38 -1585.31,2189.62 -1601.31,2189.62 -1601.31,2142.38
  region: -1616.8,2142.38 -1616.8,2189.62 -1632.8,2189.62 -1632.8,2142.38
  region: -1648.3,2142.38 -1648.3,2189.62 -1664.3,2189.62 -1664.3,2142.38
  region: -1679.8,2142.38 -1679.8,2189.62 -1695.8,2189.62 -1695.8,2142.38
  region: -1711.29,2142.38 -1711.29,2189.62 -1727.29,2189.62 -1727.29,2142.38
  region: -1742.79,2142.38 -1742.79,2189.62 -1758.79,2189.62 -1758.79,2142.38
  region: -1774.28,2142.38 -1774.28,2189.62 -1790.28,2189.62 -1790.28,2142.38
  region: -1805.78,2142.38 -1805.78,2189.62 -1821.78,2189.62 -1821.78,2142.38
  region: -1837.28,2142.38 -1837.28,2189.62 -1853.28,2189.62 -1853.28,2142.38
  region: -1868.77,2142.38 -1868.77,2189.62 -1884.77,2189.62 -1884.77,2142.38
  region: -1900.27,2142.38 -1900.27,2189.62 -1916.27,2189.62 -1916.27,2142.38
  region: -1931.76,2142.38 -1931.76,2189.62 -1947.76,2189.62 -1947.76,2142.38
  region: -1963.26,2142.38 -1963.26,2189.62 -1979.26,2189.62 -1979.26,2142.38
  region: -1994.76,2142.38 -1994.76,2189.62 -2010.76,2189.62 -2010.76,2142.38
  region: -2026.25,2142.38 -2026.25,2189.62 -2042.25,2189.62 -2042.25,2142.38
  region: -2057.75,2142.38 -2057.75,2189.62 -2073.75,2189.62 -2073.75,2142.38
  region: -2089.24,2142.38 -2089.24,2189.62 -2105.24,2189.62 -2105.24,2142.38
  region: -2120.74,2142.38 -2120.74,2189.62 -2136.74,2189.62 -2136.74,2142.38
  region: -2152.24,2142.38 -2152.24,2189.62 -2168.24,2189.62 -2168.24,2142.38
  region: -2183.73,2142.38 -2183.73,2189.62 -2199.73,2189.62 -2199.73,2142.38
  region: -2215.23,2142.38 -2215.23,2189.62 -2231.23,2189.62 -2231.23,2142.38
  region: -2246.72,2142.38 -2246.72,2189.62 -2262.72,2189.62 -2262.72,2142.38
  region: -2278.22,2142.38 -2278.22,2189.62 -2294.22,2189.62 -2294.22,2142.38
  region: -2309.72,2142.38 -2309.72,2189.62 -2325.72,2189.62 -2325.72,2142.38
  region: -2341.21,2142.38 -2341.21,2189.62 -2357.21,2189.62 -2357.21,2142.38
  region: -2372.71,2142.38 -2372.71,2189.62 -2388.71,2189.62 -2388.71,2142.38
  region: -2404.2,2142.38 -2404.2,2189.62 -2420.2,2189.62 -2420.2,2142.38
  region: -2435.7,2142.38 -2435.7,2189.62 -2451.7,2189.62 -2451.7,2142.38
  region: -2467.2,2142.38 -2467.2,2189.62 -2483.2,2189.62 -2483.2,2142.38
  region: -2498.69,2142.38 -2498.69,2189.62 -2514.69,2189.62 -2514.69,2142.38
  region: -2530.19,2142.38 -2530.19,2189.62 -2546.19,2189.62 -2546.19,2142.38
  region: -2611.15,2254.63 -2611.15,2270.37 -2658.15,2270.37 -2658.15,2254.63
  region: -2611.15,2285.63 -2611.15,2301.37 -2658.15,2301.37 -2658.15,2285.63
  region: -2611.15,2317.63 -2611.15,2333.37 -2658.15,2333.37 -2658.15,2317.63
  region: -2611.15,2348.63 -2611.15,2364.37 -2658.15,2364.37 -2658.15,2348.63
  region: -2611.15,2380.63 -2611.15,2396.37 -2658.15,2396.37 -2658.15,2380.63
  region: -2611.15,2411.63 -2611.15,2427.37 -2658.15,2427.37 -2658.15,2411.63
  region: -2611.15,2443.63 -2611.15,2459.37 -2658.15,2459.37 -2658.15,2443.63
  region: -2611.15,2474.63 -2611.15,2490.37 -2658.15,2490.37 -2658.15,2474.63
  region: -2611.15,2506.63 -2611.15,2522.37 -2658.15,2522.37 -2658.15,2506.63
  region: -2611.15,2537.63 -2611.15,2553.37 -2658.15,2553.37 -2658.15,2537.63
  region: -2611.15,2569.63 -2611.15,2585.37 -2658.15,2585.37 -2658.15,2569.63
  region: -2611.15,2600.63 -2611.15,2616.37 -2658.15,2616.37 -2658.15,2600.63
  region: -2611.15,2632.63 -2611.15,2648.37 -2658.15,2648.37 -2658.15,2632.63
  region: -2611.15,2663.63 -2611.15,2679.37 -2658.15,2679.37 -2658.15,2663.63
  region: -2611.15,2695.63 -2611.15,2711.37 -2658.15,2711.37 -2658.15,2695.63
  region: -2611.15,2726.63 -2611.15,2742.37 -2658.15,2742.37 -2658.15,2726.63
  region: -2611.15,2758.63 -2611.15,2774.37 -2658.15,2774.37 -2658.15,2758.63
  region: -2611.15,2789.63 -2611.15,2805.37 -2658.15,2805.37 -2658.15,2789.63
  region: -2611.15,2821.63 -2611.15,2837.37 -2658.15,2837.37 -2658.15,2821.63
  region: -2611.15,2852.63 -2611.15,2868.37 -2658.15,2868.37 -2658.15,2852.63
  region: -2611.15,2884.63 -2611.15,2900.37 -2658.15,2900.37 -2658.15,2884.63
  region: -2611.15,2915.63 -2611.15,2931.37 -2658.15,2931.37 -2658.15,2915.63
  region: -2611.15,2947.63 -2611.15,2963.37 -2658.15,2963.37 -2658.15,2947.63
  region: -2611.15,2978.63 -2611.15,2994.37 -2658.15,2994.37 -2658.15,2978.63
  region: -2611.15,3010.63 -2611.15,3026.37 -2658.15,3026.37 -2658.15,3010.63
  region: -2611.15,3041.63 -2611.15,3057.37 -2658.15,3057.37 -2658.15,3041.63
  region: -2611.15,3073.63 -2611.15,3089.37 -2658.15,3089.37 -2658.15,3073.63
  region: -2611.15,3104.63 -2611.15,3120.37 -2658.15,3120.37 -2658.15,3104.63
  region: -2611.15,3136.63 -2611.15,3152.37 -2658.15,3152.37 -2658.15,3136.63
  region: -2611.15,3167.63 -2611.15,3183.37 -2658.15,3183.37 -2658.15,3167.63
  region: -2611.15,3199.63 -2611.15,3215.37 -2658.15,3215.37 -2658.15,3199.63
  region: -2611.15,3230.63 -2611.15,3246.37 -2658.15,3246.37 -2658.15,3230.63
  region: -2530.19,3311.38 -2530.19,3358.62 -2546.19,3358.62 -2546.19,3311.38
  region: -2498.69,3311.38 -2498.69,3358.62 -2514.69,3358.62 -2514.69,3311.38
  region: -2467.2,3311.38 -2467.2,3358.62 -2483.2,3358.62 -2483.2,3311.38
  region: -2435.7,3311.38 -2435.7,3358.62 -2451.7,3358.62 -2451.7,3311.38
  region: -2404.2,3311.38 -2404.2,3358.62 -2420.2,3358.62 -2420.2,3311.38
  region: -2372.71,3311.38 -2372.71,3358.62 -2388.71,3358.62 -2388.71,3311.38
  region: -2341.21,3311.38 -2341.21,3358.62 -2357.21,3358.62 -2357.21,3311.38
  region: -2309.72,3311.38 -2309.72,3358.62 -2325.72,3358.62 -2325.72,3311.38
  region: -2278.22,3311.38 -2278.22,3358.62 -2294.22,3358.62 -2294.22,3311.38
  region: -2246.72,3311.38 -2246.72,3358.62 -2262.72,3358.62 -2262.72,3311.38
  region: -2215.23,3311.38 -2215.23,3358.62 -2231.23,3358.62 -2231.23,3311.38
  region: -2183.73,3311.38 -2183.73,3358.62 -2199.73,3358.62 -2199.73,3311.38
  region: -2152.24,3311.38 -2152.24,3358.62 -2168.24,3358.62 -2168.24,3311.38
  region: -2120.74,3311.38 -2120.74,3358.62 -2136.74,3358.62 -2136.74,3311.38
  region: -2089.24,3311.38 -2089.24,3358.62 -2105.24,3358.62 -2105.24,3311.38
  region: -2057.75,3311.38 -2057.75,3358.62 -2073.75,3358.62 -2073.75,3311.38
  region: -2026.25,3311.38 -2026.25,3358.62 -2042.25,3358.62 -2042.25,3311.38
  region: -1994.76,3311.38 -1994.76,3358.62 -2010.76,3358.62 -2010.76,3311.38
  region: -1963.26,3311.38 -1963.26,3358.62 -1979.26,3358.62 -1979.26,3311.38
  region: -1931.76,3311.38 -1931.76,3358.62 -1947.76,3358.62 -1947.76,3311.38
  region: -1900.27,3311.38 -1900.27,3358.62 -1916.27,3358.62 -1916.27,3311.38
  region: -1868.77,3311.38 -1868.77,3358.62 -1884.77,3358.62 -1884.77,3311.38
  region: -1837.28,3311.38 -1837.28,3358.62 -1853.28,3358.62 -1853.28,3311.38
  region: -1805.78,3311.38 -1805.78,3358.62 -1821.78,3358.62 -1821.78,3311.38
  region: -1774.28,3311.38 -1774.28,3358.62 -1790.28,3358.62 -1790.28,3311.38
  region: -1742.79,3311.38 -1742.79,3358.62 -1758.79,3358.62 -1758.79,3311.38
  region: -1711.29,3311.38 -1711.29,3358.62 -1727.29,3358.62 -1727.29,3311.38
  region: -1679.8,3311.38 -1679.8,3358.62 -1695.8,3358.62 -1695.8,3311.38
  region: -1648.3,3311.38 -1648.3,3358.62 -1664.3,3358.62 -1664.3,3311.38
  region: -1616.8,3311.38 -1616.8,3358.62 -1632.8,3358.62 -1632.8,3311.38
  region: -1585.31,3311.38 -1585.31,3358.62 -1601.31,3358.62 -1601.31,3311.38
  region: -1553.81,3311.38 -1553.81,3358.62 -1569.81,3358.62 -1569.81,3311.38
  region: -1441.85,3230.63 -1441.85,3246.37 -1488.85,3246.37 -1488.85,3230.63
  region: -1441.85,3199.63 -1441.85,3215.37 -1488.85,3215.37 -1488.85,3199.63
  region: -1441.85,3167.63 -1441.85,3183.37 -1488.85,3183.37 -1488.85,3167.63
  region: -1441.85,3136.63 -1441.85,3152.37 -1488.85,3152.37 -1488.85,3136.63
  region: -1441.85,3104.63 -1441.85,3120.37 -1488.85,3120.37 -1488.85,3104.63
  region: -1441.85,3073.63 -1441.85,3089.37 -1488.85,3089.37 -1488.85,3073.63
  region: -1441.85,3041.63 -1441.85,3057.37 -1488.85,3057.37 -1488.85,3041.63
  region: -1441.85,3010.63 -1441.85,3026.37 -1488.85,3026.37 -1488.85,3010.63
  region: -1441.85,2978.63 -1441.85,2994.37 -1488.85,2994.37 -1488.85,2978.63
  region: -1441.85,2947.63 -1441.85,2963.37 -1488.85,2963.37 -1488.85,2947.63
  region: -1441.85,2915.63 -1441.85,2931.37 -1488.85,2931.37 -1488.85,2915.63
  region: -1441.85,2884.63 -1441.85,2900.37 -1488.85,2900.37 -1488.85,2884.63
  region: -1441.85,2852.63 -1441.85,2868.37 -1488.85,2868.37 -1488.85,2852.63
  region: -1441.85,2821.63 -1441.85,2837.37 -1488.85,2837.37 -1488.85,2821.63
  region: -1441.85,2789.63 -1441.85,2805.37 -1488.85,2805.37 -1488.85,2789.63
  region: -1441.85,2758.63 -1441.85,2774.37 -1488.85,2774.37 -1488.85,2758.63
  region: -1441.85,2726.63 -1441.85,2742.37 -1488.85,2742.37 -1488.85,2726.63
  region: -1441.85,2695.63 -1441.85,2711.37 -1488.85,2711.37 -1488.85,2695.63
  region: -1441.85,2663.63 -1441.85,2679.37 -1488.85,2679.37 -1488.85,2663.63
  region: -1441.85,2632.63 -1441.85,2648.37 -1488.85,2648.37 -1488.85,2632.63
  region: -1441.85,2600.63 -1441.85,2616.37 -1488.85,2616.37 -1488.85,2600.63
  region: -1441.85,2569.63 -1441.85,2585.37 -1488.85,2585.37 -1488.85,2569.63
  region: -1441.85,2537.63 -1441.85,2553.37 -1488.85,2553.37 -1488.85,2537.63
  region: -1441.85,2506.63 -1441.85,2522.37 -1488.85,2522.37 -1488.85,2506.63
  region: -1441.85,2474.63 -1441.85,2490.37 -1488.85,2490.37 -1488.85,2474.63
  region: -1441.85,2443.63 -1441.85,2459.37 -1488.85,2459.37 -1488.85,2443.63
  region: -1441.85,2411.63 -1441.85,2427.37 -1488.85,2427.37 -1488.85,2411.63
  region: -1441.85,2380.63 -1441.85,2396.37 -1488.85,2396.37 -1488.85,2380.63
  region: -1441.85,2348.63 -1441.85,2364.37 -1488.85,2364.37 -1488.85,2348.63
  region: -1441.85,2317.63 -1441.85,2333.37 -1488.85,2333.37 -1488.85,2317.63
  region: -1441.85,2285.63 -1441.85,2301.37 -1488.85,2301.37 -1488.85,2285.63
  region: -1441.85,2254.63 -1441.85,2270.37 -1488.85,2270.37 -1488.85,2254.63

## QSOP16 [mil]
pads (17):
  rect 12x40 smd: BYP(88,-108.96) DDC_IN1(88,109) DDC_IN2(13,109) DDC_OUT1(63,109) DDC_OUT2(38,109) ENABLE(-62.5,-108.96) GND(38,-108.96) SYNC_IN1(-12.5,109) SYNC_IN2(-62.5,109) SYNC_OUT1(-37.5,109) SYNC_OUT2(-87.5,109) VCC(-87.5,-108.96) VCC_DDC(63,-108.96) VIDEO_1(-37.5,-108.96) VIDEO_2(-12.5,-108.96) VIDEO_3(13,-108.96)
  rect 95x73 smd: CM2006(0,0)
Top Overlay:
  circle w0: c-79.04,-44 r9
  lines w8: -94.49,-58.27 95,-58.27 ; 95,-58.27 95,75 -94.49,75 -94.49,-74.8 95,-74.8 95,-58.27
Mechanical 16:
  rectangle: -93.5,-122.05 -81.69,-78.74
  rectangle: -68.5,-122.05 -56.69,-78.74
  rectangle: -43.5,-122.05 -31.69,-78.74
  rectangle: -18.5,-122.05 -6.69,-78.74
  rectangle: 7,-122.05 19,-78.74
  rectangle: 32,-122.05 44,-78.74
  rectangle: 57,-122.05 69,-78.74
  rectangle: 82,-122.05 94,-78.74
  region: 94,123 82,123 82,79 94,79
  region: 69,123 57,123 57,79 69,79
  region: 44,123 32,123 32,79 44,79
  region: 19,123 7,123 7,79 19,79
  region: -6.5,123 -18.31,123 -18.31,79 -6.5,79
  region: -31.5,123 -43.31,123 -43.31,79 -31.5,79
  region: -56.5,123 -68.31,123 -68.31,79 -56.5,79
  region: -81.5,123 -93.31,123 -93.31,79 -81.5,79

## RJ45-SHIELD1 [mil]
pads (14):
  round 128 hole 128: 1(-525,300) 1(-75,300)
  round 56 hole 36: 1(-125,50) 2(-175,-50) 3(-225,50) 4(-275,-50) 5(-325,50) 6(-375,-50) 7(-425,50) 8(-475,-50)
  round 99 hole 75: S1(20,420) S2(-620,420) S3(20,-44.88) S4(-620,-44.88)
Top Overlay:
  lines w8: -606.18,-125.94 7,-125.94 ; -606.18,25 -606.18,332 ; -606.18,500 -606.18,607 7,607 7,500 ; 7,25 7,332
Mechanical 1:
  lines w1: -632.5,517 33,517
Mechanical 2:
  text "Ethernet" at -475,125 h108.5
Mechanical 4:
Mechanical 16:
  region: 46,516 10,516 10,471 46,471
  region: -609.06,516 -645.47,516 -645.47,471 -609.06,471
  lines w8: -606.18,-125.94 -606.18,32 ; -606.18,325 -606.18,507 ; 7,-125.94 7,32 ; 7,325 7,507

## SCD-014-A [mil]
pads (3):
  oval 158x79 hole 40: +(-98.43,544) GND1(-98.43,296)
  oval 79x158 hole 40: GND(99,426)
Top Overlay:
  lines w8: -167.32,258 -167.32,4 168,4 168,540 -9.84,540 ; -167.32,331 -167.32,500
Mechanical 2:
  text "PWR_IN" at -200,0 h108.5
Mechanical 11:
  lines w0: -161.42,296 ccw(c-141.57,295.84) -141.73,276 -55.12,276 ccw(c-55.28,295.84) -35.43,296 ccw(c-54.78,295.66) -55.12,315 -141.73,315 ccw(c-142.07,295.66) -161.42,296 ; -161.42,544 ccw(c-141.57,543.84) -141.73,524 -55.12,524 ccw(c-55.28,543.84) -35.43,544 ccw(c-54.78,543.66) -55.12,563 -141.73,563 ccw(c-142.07,543.66) -161.42,544 ; 79,382 ccw(c98.5,382.5) 99,363 ccw(c99.5,382.5) 119,382 119,469 ccw(c99,469) 99,489 ccw(c99,469) 79,469 79,382
Mechanical 16:
  lines w2: -124.02,6 -124.02,363 -49.21,363 -49.21,101 ccw(c-0.11,101.11) 0,52 ccw(c0.5,101.5) 50,101 50,363 125,363 125,6
  lines w8: -167.32,258 -167.32,331 ; -167.32,500 -167.32,540 -9.84,540

## TQFN24-EP [mil]
pads (25):
  rrect50% 24x12 smd: B0(-71.85,-29.53) B1(72,-29.53) B2(72,-49.21) G0(-71.85,-9.84) G1(72,10) G2(72,-9.84) H0(-71.85,-49.21) R0(-71.85,10) R1(72,50) R2(72,30) SCL0(-71.85,30) SDA0(-71.85,50)
  rrect50% 12x24 smd: EN(-29.53,72) GND(10,-71.85) H1(30,-71.85) SCL1(30,72) SCL2(50,72) SDA1(-9.84,72) SDA2(10,72) SEL(-49.21,72) V0(-49.21,-71.85) V1(50,-71.85) VCC(-29.53,-71.85) VL(-9.84,-71.85)
  rect 104x104 smd: M4885E(0,0)
Top Overlay:
  rectangle: -78.74,60 -59.06,79
Top Paste:
  rectangle: -82.68,45 -61.02,55
  rectangle: -45.28,-46.26 46,48
  rectangle: -82.68,25 -61.02,35
  rectangle: -82.68,5 -61.02,15
  rectangle: -82.68,-14.76 -61.02,-4.92
  rectangle: -82.68,-34.45 -61.02,-24.61
  rectangle: -82.68,-54.13 -61.02,-44.29
  region: -44.29,-82.68 -44.29,-61.02 -54.13,-61.02 -54.13,-82.68
  region: -24.61,-82.68 -24.61,-61.02 -34.45,-61.02 -34.45,-82.68
  region: -4.91,-82.69 -4.91,-61.02 -14.76,-61.02 -14.76,-82.69
  region: 14.93,-82.84 14.93,-60.86 5.09,-60.86 5.09,-82.84
  region: 34.92,-82.85 34.92,-60.85 25.08,-60.85 25.08,-82.85
  region: 54.92,-82.85 54.92,-60.85 45.08,-60.85 45.08,-82.85
  region: 83,-44.29 62,-44.29 62,-54.13 83,-54.13
  region: 83,-24.61 62,-24.61 62,-34.45 83,-34.45
  region: 83,-4.92 62,-4.92 62,-14.76 83,-14.76
  region: 83,15 62,15 62,5 83,5
  region: 83,35 62,35 62,25 83,25
  region: 83,55 62,55 62,45 83,45
  region: 45,83 45,61 55,61 55,83
  region: 25,83 25,61 35,61 35,83
  region: 5.01,82.99 5.01,61.01 15.01,61.01 15.01,82.99
  region: -14.83,82.83 -14.83,61.17 -4.83,61.17 -4.83,82.83
  region: -34.53,82.83 -34.53,61.17 -24.53,61.17 -24.53,82.83
  region: -54.21,82.83 -54.21,61.17 -44.21,61.17 -44.21,82.83
Top Solder:
  rectangle: -85.63,43 -60.04,57
  rectangle: -53.15,-53.15 54,54
  rectangle: -85.63,23 -60.04,37
  rectangle: -85.63,3 -60.04,17
  rectangle: -85.63,-16.73 -60.04,-2.95
  rectangle: -85.63,-36.42 -60.04,-22.64
  rectangle: -85.63,-56.1 -60.04,-42.32
  region: -42.32,-85.63 -42.32,-60.04 -56.1,-60.04 -56.1,-85.63
  region: -22.64,-85.63 -22.64,-60.04 -36.42,-60.04 -36.42,-85.63
  region: -2.93,-85.65 -2.93,-60.02 -16.71,-60.02 -16.71,-85.65
  region: 16.91,-85.81 16.91,-59.86 3.13,-59.86 3.13,-85.81
  region: 36.89,-85.83 36.89,-59.83 23.11,-59.83 23.11,-85.83
  region: 56.89,-85.83 56.89,-59.83 43.11,-59.83 43.11,-85.83
  region: 86,-42.32 61,-42.32 61,-56.1 86,-56.1
  region: 86,-22.64 61,-22.64 61,-36.42 86,-36.42
  region: 86,-2.95 61,-2.95 61,-16.73 86,-16.73
  region: 86,17 61,17 61,3 86,3
  region: 86,37 61,37 61,23 86,23
  region: 86,57 61,57 61,43 86,43
  region: 43,86 43,60 57,60 57,86
  region: 23,86 23,60 37,60 37,86
  region: 3.02,85.98 3.02,60.02 17.02,60.02 17.02,85.98
  region: -16.82,85.82 -16.82,60.18 -2.82,60.18 -2.82,85.82
  region: -36.53,85.8 -36.53,60.2 -22.53,60.2 -22.53,85.8
  region: -56.21,85.8 -56.21,60.2 -42.21,60.2 -42.21,85.8
Mechanical 2:
Mechanical 4:
Mechanical 16:
  rectangle: -78.74,45 -62.01,55
  rectangle: -78.74,25 -62.01,35
  rectangle: -78.74,5 -62.01,15
  rectangle: -78.74,-14.76 -62.01,-4.92
  rectangle: -78.74,-34.45 -62.01,-24.61
  rectangle: -78.74,-54.13 -62.01,-44.29
  region: -44.29,-78.74 -44.29,-62.01 -54.13,-62.01 -54.13,-78.74
  region: -24.61,-78.74 -24.61,-62.01 -34.45,-62.01 -34.45,-78.74
  region: -4.92,-78.74 -4.92,-62.01 -14.76,-62.01 -14.76,-78.74
  region: 15.42,-78.87 15.42,-61.87 5.58,-61.87 5.58,-78.87
  region: 34.92,-78.37 34.92,-62.37 25.08,-62.37 25.08,-78.37
  region: 54.42,-78.87 54.42,-61.87 44.58,-61.87 44.58,-78.87
  region: 79,-44.29 63,-44.29 63,-54.13 79,-54.13
  region: 79,-24.61 63,-24.61 63,-34.45 79,-34.45
  region: 79,-4.92 63,-4.92 63,-14.76 79,-14.76
  region: 79,15 63,15 63,5 79,5
  region: 79,35 63,35 63,25 79,25
  region: 79,55 63,55 63,45 79,45
  region: 44.5,79.5 44.5,62.5 54.5,62.5 54.5,79.5
  region: 25,79 25,63 35,63 35,79
  region: 5.5,79.5 5.5,62.5 15.5,62.5 15.5,79.5
  region: -14.84,79.37 -14.84,62.63 -4.84,62.63 -4.84,79.37
  region: -34.53,79.37 -34.53,62.63 -24.53,62.63 -24.53,79.37
  region: -54.21,79.37 -54.21,62.63 -44.21,62.63 -44.21,79.37
  lines w8: -76.77,-76.77 77,-76.77 77,77 -76.77,77 -76.77,-76.77